# Altium schematic symbol library PMDXB600UNELZ.SchLib: 2 symbols
Pins are listed as number, name and electrical type; pins without a type are passive.

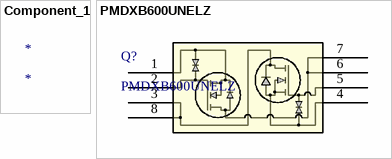
[diagram p0: symbols Component_1 to PMDXB600UNELZ]

## Component_1
designator *

## PMDXB600UNELZ
designator Q?
No Description Available; Mfr_Name: Nexperia; Type: DEV; Copyright: Copyright (C) 2023 Ultra Librarian. All rights reserved.; Manufacturer_Part_Number: PMDXB600UNELZ; RefDes: RefDes
footprint DFN1010B-6_NEX
pins: 1, 2, 3, 4, 5, 6, 7, 8